# Altium schematic symbol library zxevo_c2.SchLib: 76 symbols (part 1 of 2)
Pins are listed as number, name and electrical type; pins without a type are passive.

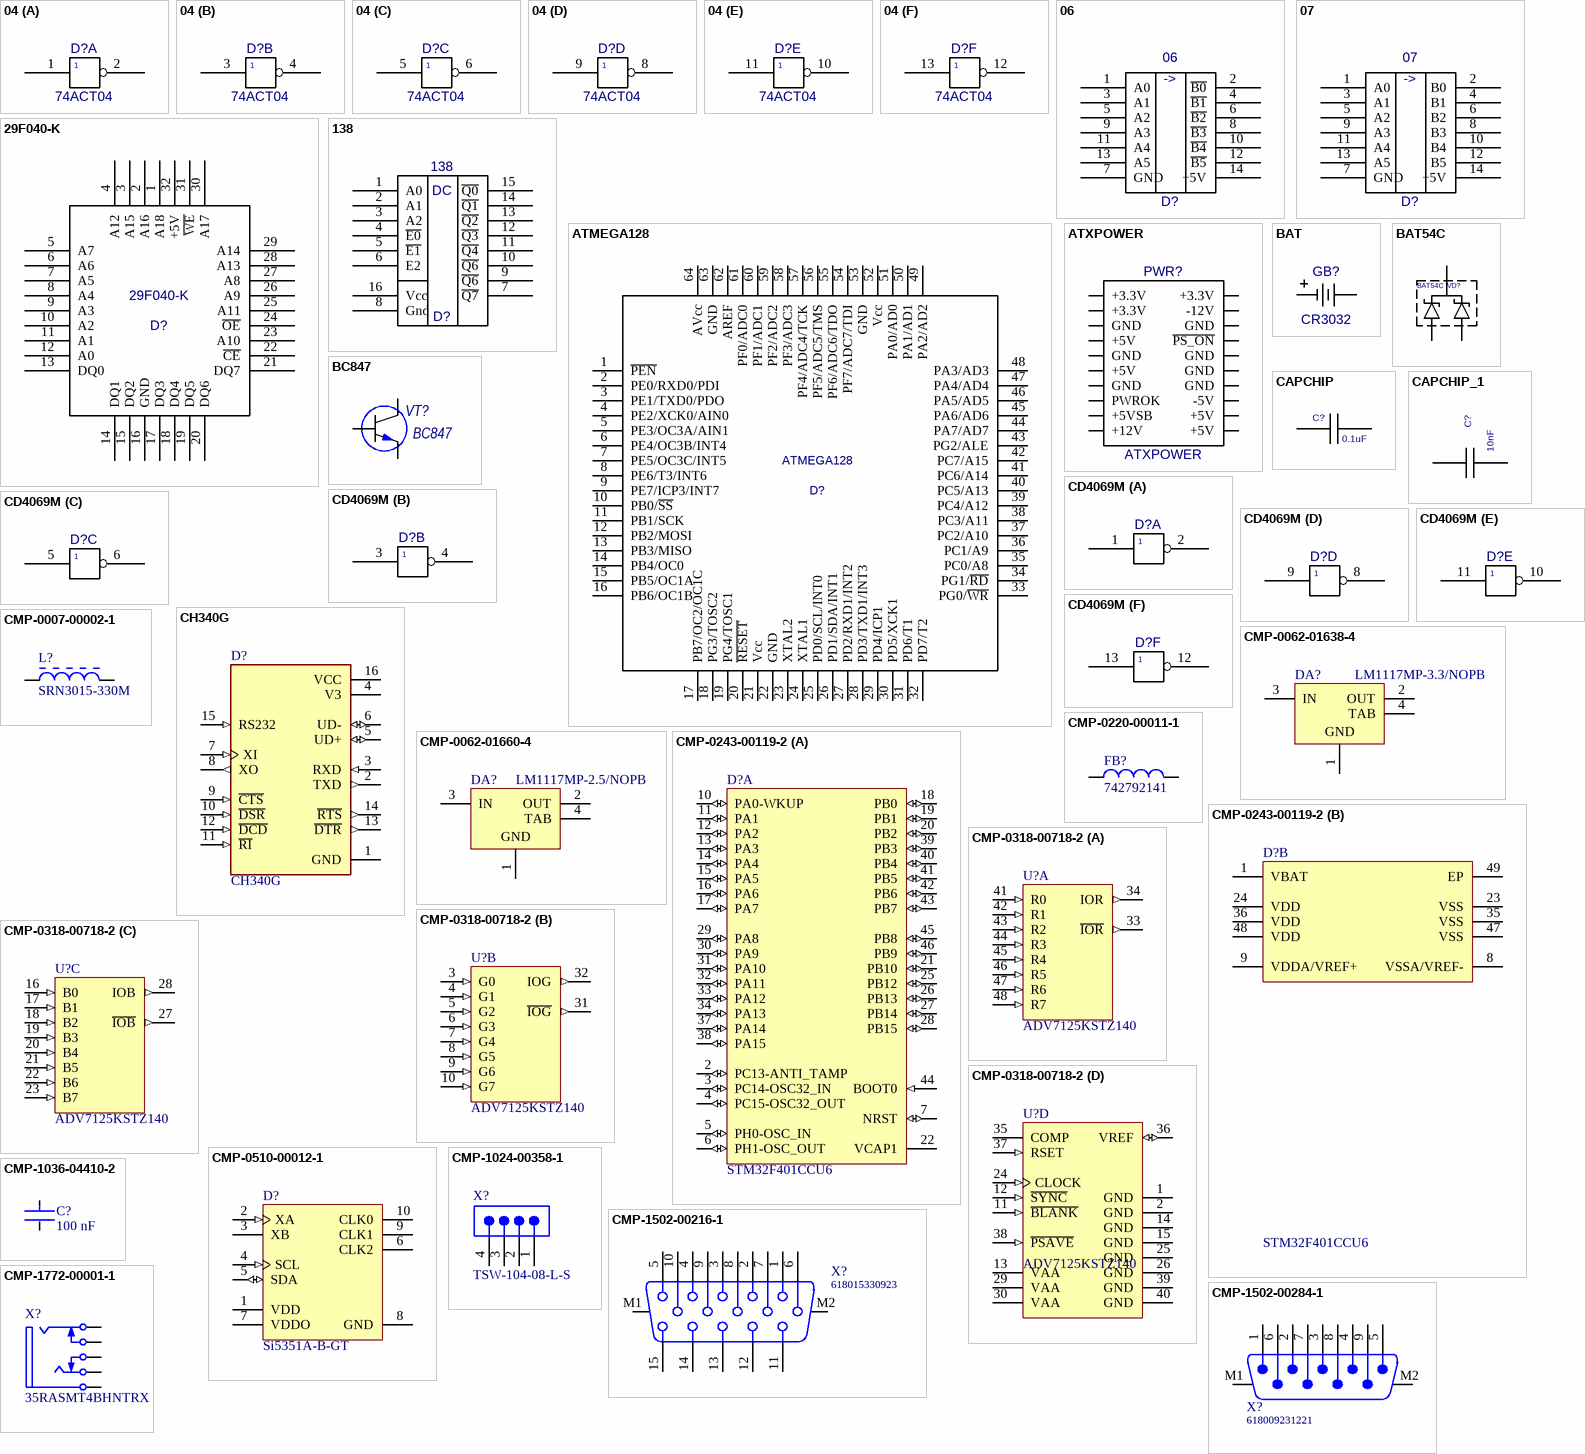
[diagram p0: symbols 04 to CMP-1772-00001-1]

## 04
designator D?  value 74ACT04  (hidden comment: 04)
footprint SO14
pins on every part: 7 GND (power) hidden to GND, 14 +5v (power) hidden to VCC5
part A pins: 1, 2
part B pins: 3, 4
part C pins: 5, 6
part D pins: 8, 9
part E pins: 10, 11
part F pins: 12, 13

## 06
designator D?
Value: *
footprint SO14
pins: 1 A0, 2 ~{B0}, 3 A1, 4 ~{B1}, 5 A2, 6 ~{B2}, 7 GND, 8 ~{B3}, 9 A3, 10 ~{B4}, 11 A4, 12 ~{B5}, 13 A5, 14 +5V
text: ->

## 07
designator D?
Value: *
footprint SO14
pins: 1 A0, 2 B0, 3 A1, 4 B1, 5 A2, 6 B2, 7 GND, 8 B3, 9 A3, 10 B4, 11 A4, 12 B5, 13 A5, 14 +5V
text: ->

## 29F040-K
designator D?
Value: *
footprint PLCC32
pins: 1 A18, 2 A16, 3 A15, 4 A12, 5 A7, 6 A6, 7 A5, 8 A4, 9 A3, 10 A2, 11 A1, 12 A0, 13 DQ0, 14 DQ1, 15 DQ2, 16 GND, 17 DQ3, 18 DQ4, 19 DQ5, 20 DQ6, 21 DQ7, 22 ~{CE}, 23 A10, 24 ~{OE}, 25 A11, 26 A9, 27 A8, 28 A13, 29 A14, 30 A17, 31 ~{WE}, 32 +5V

## 138
designator D?
Value: *
footprint SO16
pins: 1 A0, 2 A1, 3 A2, 4 ~{E0}, 5 ~{E1}, 6 E2, 7 ~{Q7}, 8 Gnd, 9 ~{Q6}, 10 ~{Q6}, 11 ~{Q4}, 12 ~{Q3}, 13 ~{Q2}, 14 ~{Q1}, 15 ~{Q0}, 16 Vcc
text: DC

## ATMEGA128
designator D?
Value: *
footprint TQFP64X8
pins: 1 ~{PEN}, 2 PE0/RXD0/PDI, 3 PE1/TXD0/PDO, 4 PE2/XCK0/AIN0, 5 PE3/OC3A/AIN1, 6 PE4/OC3B/INT4, 7 PE5/OC3C/INT5, 8 PE6/T3/INT6, 9 PE7/ICP3/INT7, 10 PB0/~{SS}, 11 PB1/SCK, 12 PB2/MOSI, 13 PB3/MISO, 14 PB4/OC0, 15 PB5/OC1A, 16 PB6/OC1B, 17 PB7/OC2/OC1C, 18 PG3/TOSC2, 19 PG4/TOSC1, 20 ~{RESET}, 21 Vcc, 22 GND, 23 XTAL2, 24 XTAL1, 25 PD0/SCL/INT0, 26 PD1/SDA/INT1, 27 PD2/RXD1/INT2, 28 PD3/TXD1/INT3, 29 PD4/ICP1, 30 PD5/XCK1, 31 PD6/T1, 32 PD7/T2, 33 PG0/~{WR}, 34 PG1/~{RD}, 35 PC0/A8, 36 PC1/A9, 37 PC2/A10, 38 PC3/A11, 39 PC4/A12, 40 PC5/A13, 41 PC6/A14, 42 PC7/A15, 43 PG2/ALE, 44 PA7/AD7, 45 PA6/AD6, 46 PA5/AD5, 47 PA4/AD4, 48 PA3/AD3, 49 PA2/AD2, 50 PA1/AD1, 51 PA0/AD0, 52 Vcc, 53 GND, 54 PF7/ADC7/TDI, 55 PF6/ADC6/TDO, 56 PF5/ADC5/TMS, 57 PF4/ADC4/TCK, 58 PF3/ADC3, 59 PF2/ADC2, 60 PF1/ADC1, 61 PF0/ADC0, 62 AREF, 63 GND, 64 AVcc

## ATXPOWER
designator PWR?
Value: *
footprint ATXPOWER
pins: 1 +3.3V, 2 +3.3V, 3 GND, 4 +5V, 5 GND, 6 +5V, 7 GND, 8 PWROK, 9 +5VSB, 10 +12V, 11 +3.3V, 12 -12V, 13 GND, 14 ~{PS_ON}, 15 GND, 16 GND, 17 GND, 18 -5V, 19 +5V, 20 +5V

## BAT
designator GB?  value CR3032  (hidden comment: BAT)
footprint BAT
pins: 1 PLUS, 2 MINUS

## BAT54C
designator VD?
Value: *
footprint SOT-23
pins: 1, 2, 3

## BC847
designator VT?
footprint SOT-23
pins: 1 base, 2 emitter, 3 collector

## CAPCHIP
designator C?  value 0.1uF  (hidden comment: CAPCHIP)
footprint C-CHIP
pins: 1, 2

## CAPCHIP_1
designator C?, comment value 10nF  (hidden comment: CAPCHIP)
footprint C-CHIP
pins: 1, 2

## CD4069M
designator D?  (value not drawn)
footprint SO14
pins on every part: 7 GND (power) hidden to AGND, 14 +5v (power) hidden to AVCC5
part A pins: 1, 2
part B pins: 3, 4
part C pins: 5, 6
part D pins: 8, 9
part E pins: 10, 11
part F pins: 12, 13

## CH340G
designator D?
USB Interface Integrated Circuit; MF: WCH; Price: None; SnapEDA_Link: https://www.snapeda.com/parts/Ch340G/WCH/view-part/?ref=snap; MP: Ch340G; Value: *; Availability: Not in stock; Package: None; Check_prices: https://www.snapeda.com/parts/Ch340G/WCH/view-part/?ref=eda
footprint SOIC127P600X180-16N
pins: 1 GND (power), 2 TXD (out), 3 RXD (in), 4 V3 (power), 5 UD+ (io), 6 UD- (io), 7 XI (in), 8 XO (out), 9 ~{CTS} (in), 10 ~{DSR} (in), 11 ~{RI} (in), 12 ~{DCD} (in), 13 ~{DTR} (out), 14 ~{RTS} (out), 15 RS232 (in), 16 VCC (power)

## CMP-0007-00002-1
designator L?, comment SRN3015-330M
Semi-shielded Power Inductor, 33 uH, +/- 20%, 0.5 A, -40 to 125 degC, 3 x 3 x 1.5 mm SMD, RoHS and Halogen Free, Tape and Reel; Manufacturer: Bourns; DCR Max: 0.959 Ohm; Resistance to Solder Heat: +260 degC for 10 sec.; Inductance: 33 uH; Isat: 0.46 A; Rated current: 0.5 A; SRF Min: 22 MHz; Inductance tolerance: +/- 20%; Packing: Tape and Reel; PackageDescription: 2-Pin SMD, Body 3 x 3 mm, Height 1.5 mm; Operating Temperature: -40 to 125 degC; Mounting Technology: Surface Mount; ComponentLink3Description: Package Specification; DatasheetVersion: Aug-11; ComponentLink3URL: http://www.bourns.com/data/global/pdfs/SRN3015.pdf; RoHS: TRUE; PartNumber: SRN3015-330M; ComponentLink2Description: Datasheet; ComponentLink2URL: http://www.bourns.com/data/global/pdfs/SRN3015.pdf; ComponentLink1Description: Manufacturer URL; PackageReference: SRN3015; ComponentLink1URL: http://www.bourns.com/; Manufacturer Part Number: SRN3015-330M
footprint BOUR-SRN3015-2_V (SMD, 2-Leads, Body 3x3mm, Height 1.5mm)
pins: 1, 2

## CMP-0062-01638-4
designator DA?, comment LM1117MP-3.3/NOPB
800mA Low-Dropout Linear Regulator, 4-pin SOT-223, Pb-Free; Manufacturer: Texas Instruments; Manufacturer: TI National Semiconductor; CompType: LDO IC; PackageTopMarking: XYTT*N05A; High-Reliability: Y; PowerWise: N; ComponentLink1URL: http://www.ti.com/general/docs/lit/getliterature.tsp?genericPartNumber=LM1117-N&fileType=pdf; PinCount: 4; PackageDescription: Molded SOT-223, 6.50 x 3.56 x 1.6mm Body, 4 Lead, 2.3mm Pitch; Code_IPC: SOT223-4; PartNumber: LM1117MP-3.3/NOPB; Code_JEDEC: TO-261-AA; RoHS: Y; PackageReference: DCY0004A; ComponentLink1Description: Datasheet URL; Manufacturer Part Number: LM1117MP-3.3/NOPB
footprint DCY0004A_L (SOT223, 4-Leads, Body 6.7x3.7mm, Pitch 2.3mm, IPC High Density)
footprint DCY0004A_M (SOT223, 4-Leads, Body 6.7x3.7mm, Pitch 2.3mm, IPC Low Density)
footprint DCY0004A_N (SOT223, 4-Leads, Body 6.7x3.7mm, Pitch 2.3mm, IPC Medium Density)
pins: 1 GND (power), 2 OUT (power), 3 IN (power), 4 TAB (power)

## CMP-0062-01660-4
designator DA?, comment LM1117MP-2.5/NOPB
800mA Low-Dropout Linear Regulator, 4-pin SOT-223, Pb-Free; Manufacturer: Texas Instruments; Manufacturer: TI National Semiconductor; PackageTopMarking: XYTT*N13A; CompType: LDO IC; PowerWise: N; High-Reliability: Y; Code_JEDEC: TO-261-AA; Code_IPC: SOT223-4; PartNumber: LM1117MP-2.5/NOPB; PackageDescription: Molded SOT-223, 6.50 x 3.56 x 1.6mm Body, 4 Lead, 2.3mm Pitch; PackageReference: DCY0004A; PinCount: 4; ComponentLink1URL: http://www.ti.com/general/docs/lit/getliterature.tsp?genericPartNumber=LM1117-N&fileType=pdf; RoHS: Y; ComponentLink1Description: Datasheet URL; Manufacturer Part Number: LM1117MP-2.5/NOPB
footprint DCY0004A_M (SOT223, 4-Leads, Body 6.7x3.7mm, Pitch 2.3mm, IPC Low Density)
footprint DCY0004A_N (SOT223, 4-Leads, Body 6.7x3.7mm, Pitch 2.3mm, IPC Medium Density)
footprint DCY0004A_L (SOT223, 4-Leads, Body 6.7x3.7mm, Pitch 2.3mm, IPC High Density)
pins: 1 GND (power), 2 OUT (power), 3 IN (power), 4 TAB (power)

## CMP-0220-00011-1
designator FB?, comment 742792141
SMD EMI Suppression Ferrite Bead WE-CBF, Z = 1000 Ohm; Manufacturer: Wurth Electronics; Impedance: 1000 Ohm; PackageReference: SMD-1206; ComponentLink1URL: http://www.we-online.com; PackageVersion: 2007; DatasheetVersion: Dec-2005; ComponentLink1Description: Manufacturer Link; PackageDescription: Chip Inductor, 2-Leads, Body 3.2 x 1.6 mm; ComponentLink2Description: Datasheet; ComponentLink2URL: http://www.we-online.de/katalog/media/pdf/742792141.pdf; Manufacturer Part Number: 742792141
footprint SMD-1206 (Chip Inductor, 2-Leads, Body 3.2x1.6x1.3 mm)
pins: 1, 2

## CMP-0243-00119-2
designator D?, comment STM32F401CCU6
ARM Cortex-M4 32-bit MCU+FPU, 105 DMIPS, 256 kB Flash, 64 kB Internal RAM, 36 I/Os, 48-pin UFQFPN, -40 to 85 degC, Tray; Manufacturer: STMicroelectronics; Supply Voltage(Vcc) max (V): 3.6; I/Os (High Current): 36; Internal RAM Size (kB): 64; Operating Frequency(F) (Processor speed) (MHz): 84; FLASH Size (Prog) (kB): 256; Supply Voltage(Vcc) min (V): 1.8; Packing: Tray; PackageReference: UFQFPN48; PackageVersion: Rev. 1, 04/2013; Core: ARM Cortex-M4; ComponentLink1Description: Manufacturer URL; ComponentLink3Description: Package Specification; PackageDescription: 48-Pin Ultra Thin Fine Pitch Quad Flat No-Lead, 7 x 7 x 0.6 mm Body, 0.5 mm Pitch, Exposed Pad; Mounting Technology: Surface Mount; ComponentLink2URL: http://www.st.com/st-web-ui/static/active/en/resource/technical/document/data_brief/DM00071938.pdf; DatasheetVersion: Rev. 1; ComponentLink2Description: Datasheet; ComponentLink1URL: http://www.st.com/web/en/home.html; PartNumber: STM32F401CCU6; ComponentLink3URL: http://www.st.com/st-web-ui/static/active/en/resource/technical/document/data_brief/DM00071938.pdf; Manufacturer Part Number: STM32F401CCU6
footprint STM-UFQFPN48_N (QFN, 48-Leads, Body 7.1x7.1mm, Pitch 0.5mm, Thermal Pad 5.6x5.6mm, IPC Medium Density)
part A pins: 2 PC13-ANTI_TAMP (io) "PC13-ANTI_TAMP/TAMP_1", 3 PC14-OSC32_IN (io) "PC14-OSC32_IN/OSC32_IN", 4 PC15-OSC32_OUT (io) "PC15-OSC32_OUT/OSC32_OUT", 5 PH0-OSC_IN (io) "PH0-OSC_IN/OSC_IN", 6 PH1-OSC_OUT (io) "PH1-OSC_OUT/OSC_OUT", 7 NRST (io), 10 PA0-WKUP (io) "PA0-WKUP/USART2_CTS,TIM2_CH1/TIM2_ETR,TIM5_CH1/ADC1_0,WKUP", 11 PA1 (io) "PA1/USART2_RTS,TIM2_CH2,TIM5_CH2/ADC1_1", 12 PA2 (io) "PA2/USART2_TX,TIM2_CH3,TIM5_CH3,TIM9_CH1/ADC1_2", 13 PA3 (io) "PA3/USART2_RX,TIM2_CH4,TIM5_CH4,TIM9_CH2/ADC1_3", 14 PA4 (io) "PA4/SPI1_NSS,SPI3_NSS/I2S3_WS,USART2_CK/ADC1_4", 15 PA5 (io) "PA5/SPI1_SCK,TIM2_CH1/TIM2_ETR/ADC1_5", 16 PA6 (io) "PA6/SPI1_MISO,TIM1_BKIN,TIM3_CH1/ADC1_6", 17 PA7 (io) "PA7/SPI1_MOSI,TIM1_CH1N,TIM3_CH2/ADC1_7", 18 PB0 (io) "PB0/TIM1_CH2N,TIM3_CH3/ADC1_8", 19 PB1 (io) "PB1/TIM1_CH3N,TIM3_CH4/ADC1_9", 20 PB2 (io), 21 PB10 (io) "PB10/SPI2_SCK/I2S2_CK,I2C2_SCL,TIM2_CH3", 22 VCAP1 (power), 25 PB12 (io) "PB12/SPI2_NSS/I2S2_WS,I2C2_SMBAL,TIM1_BKIN", 26 PB13 (io) "PB13/SPI2_SCK/I2S2_CK,TIM1_CH1N", 27 PB14 (io) "PB14/SPI2_MISO,I2S2ext_SD,TIM1_CH2N", 28 PB15 (io) "PB15/SPI2_MOSI/I2S2_SD,TIM1_CH3N,RTC_50Hz", 29 PA8 (io) "PA8/I2C3_SCL,USART1_CK,TIM1_CH1,USB_FS_SOF,MCO_1", 30 PA9 (io) "PA9/I2C3_SMBAL,USART1_TX,TIM1_CH2,USB_FS_VBUS", 31 PA10 (io) "PA10/USART1_RX,TIM1_CH3,USB_FS_ID", 32 PA11 (io) "PA11/USART1_CTS,USART6_TX,TIM1_CH4,USB_FS_DM", 33 PA12 (io) "PA12/USART1_RTS,USART6_RX,TIM1_ETR,USB_FS_DP", 34 PA13 (io) "PA13/JTMS-SWDIO", 37 PA14 (io) "PA14/JTCK-SWCLK", 38 PA15 (io) "PA15/SPI1_NSS,SPI3_NSS/I2S3_WS,TIM2_CH1/TIM2_ETR,JTDI", 39 PB3 (io) "PB3/SPI1_SCK,SPI3_SCK/I2S3_CK,I2C2_SDA,TIM2_CH2,JTDO-SWO", 40 PB4 (io) "PB4/SPI1_MISO,SPI3_MISO,I2S3ext_SD,I2C3_SDA,TIM3_CH1,JTRST", 41 PB5 (io) "PB5/SPI1_MOSI,SPI3_MOSI/I2S3_SD,I2C1_SMBAL,TIM3_CH2", 42 PB6 (io) "PB6/I2C1_SCL,USART1_TX,TIM4_CH1", 43 PB7 (io) "PB7/I2C1_SDA,USART1_RX,TIM4_CH2", 44 BOOT0 (in), 45 PB8 (io) "PB8/I2C1_SCL,TIM4_CH3,TIM10_CH1,SDIO_D4", 46 PB9 (io) "PB9/SPI2_NSS/I2S2_WS,I2C1_SDA,TIM4_CH4,TIM11_CH1,SDIO_D5"
part B pins: 1 VBAT (power), 8 VSSA/VREF- (power), 9 VDDA/VREF+ (power), 23 VSS (power), 24 VDD (power), 35 VSS (power), 36 VDD (power), 47 VSS (power), 48 VDD (power), 49 EP (power)

## CMP-0318-00718-2
designator U?, comment ADV7125KSTZ140
3 Channel 8-Bit CMOS High Speed Video Digital-to-Analog Converter, -40 to +85 degC, ST-48, Pb-Free, Tray; Manufacturer: Analog Devices; Max V+: 5.25V; Op Pwr Diss: 485mW; Resolution (Bits): 8; # DAC Outputs: 3; Single Supply: No; ComponentLink3URL: http://www.analog.com/static/imported-files/packages/PKG_PDF/LQFP%28ST%29/ST_48.pdf; PackageDescription: 48-Pin Thin Quad Flat Pack 0.5 mm Pitch; Generic Part Number: ADV7125; ComponentLink2Description: Datasheet; ComponentLink1URL: http://www.analog.com/en/index.html; ComponentLink2URL: http://www.analog.com/static/imported-files/data_sheets/ADV7125.pdf; ComponentLink3Description: Package Specification; Packing: Tray; PartNumber: ADV7125KSTZ140; DatasheetVersion: Rev.C; PackageVersion: revA; ComponentLink4Description: Product URL; PackageReference: ST-48; ComponentLink4URL: http://www.analog.com/en/digital-to-analog-converters/da-converters/adv7125/products/product.html; RevisionNote: Component URL fixed; ComponentLink1Description: Manufacturer URL; RoHS: Y; Mounting Technology: Surface Mount; Manufacturer Part Number: ADV7125KSTZ140
footprint ST-48_N (Thin QFP, 48-Leads, Body 7x7mm, Pitch 0.5mm, IPC Medium Density)
footprint ST-48_L (Thin QFP, 48-Leads, Body 7x7mm, Pitch 0.5mm, IPC High Density)
footprint ST-48_M (Thin QFP, 48-Leads, Body 7x7mm, Pitch 0.5mm, IPC Low Density)
part A pins: 33 ~{IOR} (out) "Differential Red, Green, and Blue Current Outputs (High Impedance Current Sources). These RGB video outputs are specified to directly drive RS-343A and RS-170 video levels into a doubly terminated 75 ohm load. If the (See Datasheet)", 34 IOR (out) "Red, Green, and Blue Current Outputs. These high impedance current sources are capable of directly driving a doubly terminated 75 ohm coaxial cable. All three current outputs should have similar output loads whether or not (See Datasheet)", 41 R0 (in) "Red Pixel Data Inputs (TTL Compatible). Pixel data is latched on the rising edge of CLOCK. R0, G0, and B0 are the least significant data bits. Unused pixel data inputs should be connected to either the regular printed (See Datasheet)", 42 R1 (in) "Red Pixel Data Inputs (TTL Compatible). Pixel data is latched on the rising edge of CLOCK. R0, G0, and B0 are the least significant data bits. Unused pixel data inputs should be connected to either the regular printed (See Datasheet)", 43 R2 (in) "Red Pixel Data Inputs (TTL Compatible). Pixel data is latched on the rising edge of CLOCK. R0, G0, and B0 are the least significant data bits. Unused pixel data inputs should be connected to either the regular printed (See Datasheet)", 44 R3 (in) "Red Pixel Data Inputs (TTL Compatible). Pixel data is latched on the rising edge of CLOCK. R0, G0, and B0 are the least significant data bits. Unused pixel data inputs should be connected to either the regular printed (See Datasheet)", 45 R4 (in) "Red Pixel Data Inputs (TTL Compatible). Pixel data is latched on the rising edge of CLOCK. R0, G0, and B0 are the least significant data bits. Unused pixel data inputs should be connected to either the regular printed (See Datasheet)", 46 R5 (in) "Red Pixel Data Inputs (TTL Compatible). Pixel data is latched on the rising edge of CLOCK. R0, G0, and B0 are the least significant data bits. Unused pixel data inputs should be connected to either the regular printed (See Datasheet)", 47 R6 (in) "Red Pixel Data Inputs (TTL Compatible). Pixel data is latched on the rising edge of CLOCK. R0, G0, and B0 are the least significant data bits. Unused pixel data inputs should be connected to either the regular printed (See Datasheet)", 48 R7 (in) "Red Pixel Data Inputs (TTL Compatible). Pixel data is latched on the rising edge of CLOCK. R0, G0, and B0 are the least significant data bits. Unused pixel data inputs should be connected to either the regular printed (See Datasheet)"
part B pins: 3 G0 (in) "Green Pixel Data Inputs (TTL Compatible). Pixel data is latched on the rising edge of CLOCK. R0, G0, and B0 are the least significant data bits. Unused pixel data inputs should be connected to either the regular printed (See Datasheet)", 4 G1 (in) "Green Pixel Data Inputs (TTL Compatible). Pixel data is latched on the rising edge of CLOCK. R0, G0, and B0 are the least significant data bits. Unused pixel data inputs should be connected to either the regular printed (See Datasheet)", 5 G2 (in) "Green Pixel Data Inputs (TTL Compatible). Pixel data is latched on the rising edge of CLOCK. R0, G0, and B0 are the least significant data bits. Unused pixel data inputs should be connected to either the regular printed (See Datasheet)", 6 G3 (in) "Green Pixel Data Inputs (TTL Compatible). Pixel data is latched on the rising edge of CLOCK. R0, G0, and B0 are the least significant data bits. Unused pixel data inputs should be connected to either the regular printed (See Datasheet)", 7 G4 (in) "Green Pixel Data Inputs (TTL Compatible). Pixel data is latched on the rising edge of CLOCK. R0, G0, and B0 are the least significant data bits. Unused pixel data inputs should be connected to either the regular printed (See Datasheet)", 8 G5 (in) "Green Pixel Data Inputs (TTL Compatible). Pixel data is latched on the rising edge of CLOCK. R0, G0, and B0 are the least significant data bits. Unused pixel data inputs should be connected to either the regular printed (See Datasheet)", 9 G6 (in) "Green Pixel Data Inputs (TTL Compatible). Pixel data is latched on the rising edge of CLOCK. R0, G0, and B0 are the least significant data bits. Unused pixel data inputs should be connected to either the regular printed (See Datasheet)", 10 G7 (in) "Green Pixel Data Inputs (TTL Compatible). Pixel data is latched on the rising edge of CLOCK. R0, G0, and B0 are the least significant data bits. Unused pixel data inputs should be connected to either the regular printed (See Datasheet)", 31 ~{IOG} (out) "Differential Red, Green, and Blue Current Outputs (High Impedance Current Sources). These RGB video outputs are specified to directly drive RS-343A and RS-170 video levels into a doubly terminated 75 ohm load. If the (See Datasheet)", 32 IOG (out) "Red, Green, and Blue Current Outputs. These high impedance current sources are capable of directly driving a doubly terminated 75 ohm coaxial cable. All three current outputs should have similar output loads whether or not (See Datasheet)"
part C pins: 16 B0 (in) "Blue Pixel Data Inputs (TTL Compatible). Pixel data is latched on the rising edge of CLOCK. R0, G0, and B0 are the least significant data bits. Unused pixel data inputs should be connected to either the regular printed (See Datasheet)", 17 B1 (in) "Blue Pixel Data Inputs (TTL Compatible). Pixel data is latched on the rising edge of CLOCK. R0, G0, and B0 are the least significant data bits. Unused pixel data inputs should be connected to either the regular printed (See Datasheet)", 18 B2 (in) "Blue Pixel Data Inputs (TTL Compatible). Pixel data is latched on the rising edge of CLOCK. R0, G0, and B0 are the least significant data bits. Unused pixel data inputs should be connected to either the regular printed (See Datasheet)", 19 B3 (in) "Blue Pixel Data Inputs (TTL Compatible). Pixel data is latched on the rising edge of CLOCK. R0, G0, and B0 are the least significant data bits. Unused pixel data inputs should be connected to either the regular printed (See Datasheet)", 20 B4 (in) "Blue Pixel Data Inputs (TTL Compatible). Pixel data is latched on the rising edge of CLOCK. R0, G0, and B0 are the least significant data bits. Unused pixel data inputs should be connected to either the regular printed (See Datasheet)", 21 B5 (in) "Blue Pixel Data Inputs (TTL Compatible). Pixel data is latched on the rising edge of CLOCK. R0, G0, and B0 are the least significant data bits. Unused pixel data inputs should be connected to either the regular printed (See Datasheet)", 22 B6 (in) "Blue Pixel Data Inputs (TTL Compatible). Pixel data is latched on the rising edge of CLOCK. R0, G0, and B0 are the least significant data bits. Unused pixel data inputs should be connected to either the regular printed (See Datasheet)", 23 B7 (in) "Blue Pixel Data Inputs (TTL Compatible). Pixel data is latched on the rising edge of CLOCK. R0, G0, and B0 are the least significant data bits. Unused pixel data inputs should be connected to either the regular printed (See Datasheet)", 27 ~{IOB} (out) "Differential Red, Green, and Blue Current Outputs (High Impedance Current Sources). These RGB video outputs are specified to directly drive RS-343A and RS-170 video levels into a doubly terminated 75 ohm load. If the (See Datasheet)", 28 IOB (out) "Red, Green, and Blue Current Outputs. These high impedance current sources are capable of directly driving a doubly terminated 75 ohm coaxial cable. All three current outputs should have similar output loads whether or not (See Datasheet)"
part D pins: 1 GND (power) "Ground. All GND pins must be connected.", 2 GND (power) "Ground. All GND pins must be connected.", 11 ~{BLANK} (in) "Composite Blank Control Input (TTL Compatible). A Logic 0 on this control input drives the analog outputs, IOR, IOB, and IOG, to the blanking level. The B\L\A\N\K\ signal is latched on the rising edge of CLOCK. While (See Datasheet)", 12 ~{SYNC} (in) "Composite Sync Control Input (TTL Compatible). A Logic 0 on the S\Y\N\C\ input switches off a 40 IRE current source. This is internally connected to the IOG analog output. S\Y\N\C\ does not override any other control or data (See Datasheet)", 13 VAA (power) "Analog Power Supply (5 V +/- 5%). All VAA pins on the ADV7125 must be connected.", 14 GND (power) "Ground. All GND pins must be connected.", 15 GND (power) "Ground. All GND pins must be connected.", 24 CLOCK (in) "Clock Input (TTL Compatible). The rising edge of CLOCK latches the R0 to R7, G0 to G7, B0 to B7, S\Y\N\C\, and B\L\A\N\K\ pixel and control inputs. It is typically the pixel clock rate of the video system. CLOCK should be (See Datasheet)", 25 GND (power) "Ground. All GND pins must be connected.", 26 GND (power) "Ground. All GND pins must be connected.", 29 VAA (power) "Analog Power Supply (5 V +/- 5%). All VAA pins on the ADV7125 must be connected.", 30 VAA (power) "Analog Power Supply (5 V +/- 5%). All VAA pins on the ADV7125 must be connected.", 35 COMP "Compensation Pin. This is a compensation pin for the internal reference amplifier. A 0.1 uF ceramic capacitor must be connected between COMP and VAA.", 36 VREF (io) "Voltage Reference Input for DACs or Voltage Reference Output (1.235 V).", 37 RSET (in) "A resistor (RSET) connected between this pin and GND controls the magnitude of the full-scale video signal. Note that the IRE relationships are maintained, regardless of the full-scale output current. The relationship (See Datasheet)", 38 ~{PSAVE} (in) "Power Save Control Pin. Reduced power consumption is available on the ADV7125 when this pin is active.", 39 GND (power) "Ground. All GND pins must be connected.", 40 GND (power) "Ground. All GND pins must be connected."

## CMP-0510-00012-1
designator D?, comment Si5351A-B-GT
I2C-Programmable Any-Frequency CMOS Clock Generator + VCXO, 2.5 / 3.3 V, 0.008 to 160 MHz Output, -40 to 85 degC, 10-pin SOP; Manufacturer: Silicon Labs; Sub-Family: Clock Generators; VDD: 2.5 V; 3.3 V; Output Format: LVCMOS; Reference Inputs: 1; ComponentLink1URL: http://www.silabs.com/; Code_JEDEC: MO-187; PackageDescription: 10-Pin Mini Small Outline Package, Body 3 x 3 mm, Pitch 0.5 mm; Output Frequency (MHz): 0.008 to 160; ComponentLink3Description: Package Specification; DatasheetVersion: Rev. 0.95; PartNumber: Si5351A-B-GT; ComponentLink1Description: Manufacturer URL; Code_IPC: J-STD-020; Mounting Technology: Surface Mount; ComponentLink2Description: Datasheet; PackageReference: MSOP-10; ComponentLink2URL: http://www.silabs.com/Support%20Documents/TechnicalDocs/Si5351.pdf; ComponentLink3URL: http://www.silabs.com/Support Documents/TechnicalDocs/C8051T60x.pdf; Manufacturer Part Number: SI5351A-B-GT
footprint SLAB-MSOP-10_N (SOP, 10-Leads, Body 3x3mm, Pitch 0.5mm, IPC Medium Density)
footprint SLAB-MSOP-10_L (SOP, 10-Leads, Body 3x3mm, Pitch 0.5mm, IPC High Density)
footprint SLAB-MSOP-10_M (SOP, 10-Leads, Body 3x3mm, Pitch 0.5mm, IPC Low Density)
pins: 1 VDD (power) "Core voltage supply pin.", 2 XA (in) "Input pin for external crystal.", 3 XB "Input pin for external crystal.", 4 SCL (in) "Serial clock input for the I2C bus. This pin must be pulled-up using a pull-up resistor of at least 1 k ohm.", 5 SDA (io) "Serial data input for the I2C bus. This pin must be pulled-up using a pull-up resistor of at least 1 k ohm.", 6 CLK2 (hiz) "Output clock 2.", 7 VDDO (power) "Output voltage supply pin for CLK0, CLK1, and CLK2.", 8 GND (power) "Ground.", 9 CLK1 (hiz) "Output clock 1.", 10 CLK0 (hiz) "Output clock 0."

## CMP-1024-00358-1
designator X?, comment TSW-104-08-L-S
0.025" SQ Post Header, Through-hole, Vertical, -55 to 125 degC, 2.54 mm Pitch, 4-Pin, Male, RoHS; Manufacturer: Samtec; Pitch: 2.54 mm; PartNumber: TSW-104-08-L-S; RoHS: True; Temperature Range: -55 to 125 degC; PackageDescription: .025[0.64] SQ. Post Terminal Strip Assembly; Orientation: Vertical; ComponentLink2URL: http://www.samtec.com/documents/webfiles/pdf/TSW_TH.PDF; ComponentLink1Description: Manufacturer URL; ComponentLink2Description: Datasheet; PackageVersion: DM, 8/1988; ComponentLink3URL: http://www.samtec.com/documents/webfiles/cpdf/TSW-XXX-XX-XXX-X-XX-XXX-MKT.pdf; Mounting Technology: Through-hole; PackageReference: TSW-104-08-X-S; ComponentLink3Description: Package Specification; ComponentLink1URL: http://www.samtec.com; DatasheetVersion: F-214; Manufacturer Part Number: TSW-104-08-L-S
footprint SMTC-TSW-104-08-X-S (.025 SQ Post Terminal Strip Assembly, 1x4 Pins, Vertical, 2.54mm Pitch, Male)
pins: 1, 2, 3, 4

## CMP-1036-04410-2
designator C?, comment Capacitance: 100 nF  (hidden comment: CC0805KRX7R8BB104)
CAP CER 0.1UF 25V X7R 0805; Manufacturer: Yageo; Manufacturer: KEMET; Manufacturer Part Number: C0805C104K3RACTU; Manufacturer: Vishay Vitramon; Manufacturer Part Number: VJ0805Y104KXXMC; Manufacturer: Kyocera AVX; Manufacturer Part Number: 08053C104KAT2A; Manufacturer Part Number: C0805C104K3RACTM; Manufacturer Part Number: VJ0805Y104KXXAP; Manufacturer Part Number: C0805C104K3RAC; Manufacturer Part Number: VJ0805Y104KXXPW1BC; Manufacturer Part Number: VJ0805Y104KXXAC; Manufacturer: Murata; Manufacturer Part Number: GRM21BR71E104KA01L; Manufacturer: TDK; Manufacturer Part Number: C2012X7R1E104K/0.85; Manufacturer: Vishay; Manufacturer Part Number: VJ0805Y104KXXCW1BC; Manufacturer Part Number: C2012X7R1E104K/1.25; Manufacturer Part Number: 08053D104KAT2A; Manufacturer Part Number: 08053C104KAT7A; Manufacturer Part Number: CC0805KPX7R8BB104; Manufacturer Part Number: VJ0805Y104KXXMP; Manufacturer Part Number: 08053C104KAT4A; Tolerance: 0.1; Material: Ceramic; Value: 100 nF; ComponentLink2URL: http://www.yageo.com/documents/recent/UPY-GPHC_Y5V_6.3V-to-50V_8.pdf; Category: Cap; Mouser Description: Multilayer Ceramic Capacitors MLCC - SMD/SMT 100nF 25V X7R 10%; Manufacturer Part Number: CC0805KRX7R8BB104; Device Class L1: Passive Components; Footprint Url: http://www.yageo.com/exep/pages/download/literatures/UPY-C_GEN_24.pdf; Height: 0.95mm; Digikey Description: CAP CER 0.1UF 25V X7R 0805; Lead Free: Yes; Temperature Range High: +85°C; Temperature: -30°C to +85°C; Ipc Land Pattern Name: CAPC200125X85; Automotive: No; Octopart: https://octopart.com/cc0805krx7r8bb104-yageo-39467766; Device Class L2: Capacitors; Temperature Characteristic: X7R; Voltage Rating: 25 V; ComponentLink2Description: Datasheet; Temperature Range Low: -30°C; Device Class L3: Ceramic Capacitors; RoHS: TRUE; Package: CC0805-0.85
footprint FP-CC0805-0_85-MFG
footprint FP-CC0805-0_85-IPC_C
footprint FP-CC0805-0_85-IPC_B
footprint FP-CC0805-0_85-IPC_A
pins: 1, 2

## CMP-1502-00216-1
designator X?, comment 618015330923
Female High Density PCB Connector with Hex Screw WR-DSUB, Angled, 15 pins; Manufacturer: Wurth Elektronik; Manufacturer: Wurth Electronics; Contact Resistance: 30mOhm; Rated Current: 3A; Working Voltage: 60VAC; Pin Number: 15; Datasheet URL: https://katalog.we-online.de/em/datasheet/6180xx330923.pdf; Packaging: Tray; Operating Temperature: -40to85degC; Manufacturer URL: http://www.we-online.de; Mounting Technology: THT; Part Number: 618015330923; Gender: Female; Publisher: WurthElektronik; Orientation: Angled; Package Reference: 618015330923; Manufacturer Part Number: 618015330923
footprint 618015330923 (15 pins, right angled)
pins: 1, 2, 3, 4, 5, 6, 7, 8, 9, 10, 11, 12, 13, 14, 15, M1, M2

## CMP-1502-00284-1
designator X?, comment 618009231221
Male PCB Connector with Hex Screw WR-DSUB, 8.08 mm, Angled, 9 pins; Manufacturer: Wurth Elektronik; Manufacturer: Wurth Electronics; Working Voltage: 125VAC; Contact Resistance: 30mOhm; Rated Current: 3A; Pin Number: 9; Manufacturer URL: http://www.we-online.de; Orientation: Angled; Operating Temperature: -40to85degC; Package Reference: 618009231221; Gender: Male; Mounting Technology: THT; Publisher: WurthElektronik; Datasheet URL: https://katalog.we-online.de/em/datasheet/6180xx231221.pdf; Part Number: 618009231221; Packaging: Tray; Manufacturer Part Number: 618009231221
footprint 618009231221 (9 pins, right angled, 8.08mm, with hex screw)
pins: 1, 2, 3, 4, 5, 6, 7, 8, 9, M1, M2

## CMP-1772-00001-1
designator X?, comment 35RASMT4BHNTRX
Female 3.5 mm Phone Jack, 5 Position, Height 5 mm, RoHS, Tape and Reel; Manufacturer: Switchcraft; Current Rating: 50 mA; Voltage Rating (DC): 12 V; ComponentLink1URL: http://www.switchcraft.com/; ComponentLink2Description: Datasheet; ComponentLink2URL: http://www.switchcraft.com/Drawings/35rasmt4bhntrx_cd.pdf; PackageDescription: Female 3.5 mm Phone Jack, 5 Position, Height 5 mm; PackageReference: 35RASMT4BHNTRX; Mount: Through Hole; DatasheetVersion: Rev. C, 07/2014; Contact Material: Silver; ComponentLink1Description: Manufacturer URL; Packaging: Tape and Reel; RoHSCompliant: true; Contact Plating: Silver; Package Quantity: 3000; Manufacturer Part Number: 35RASMT4BHNTRX
footprint SWIT-35RASMT4BHNTRX_V (Jack, 5-Leads, Body 17x6mm)
pins: 1, 2, 3, 4, 5

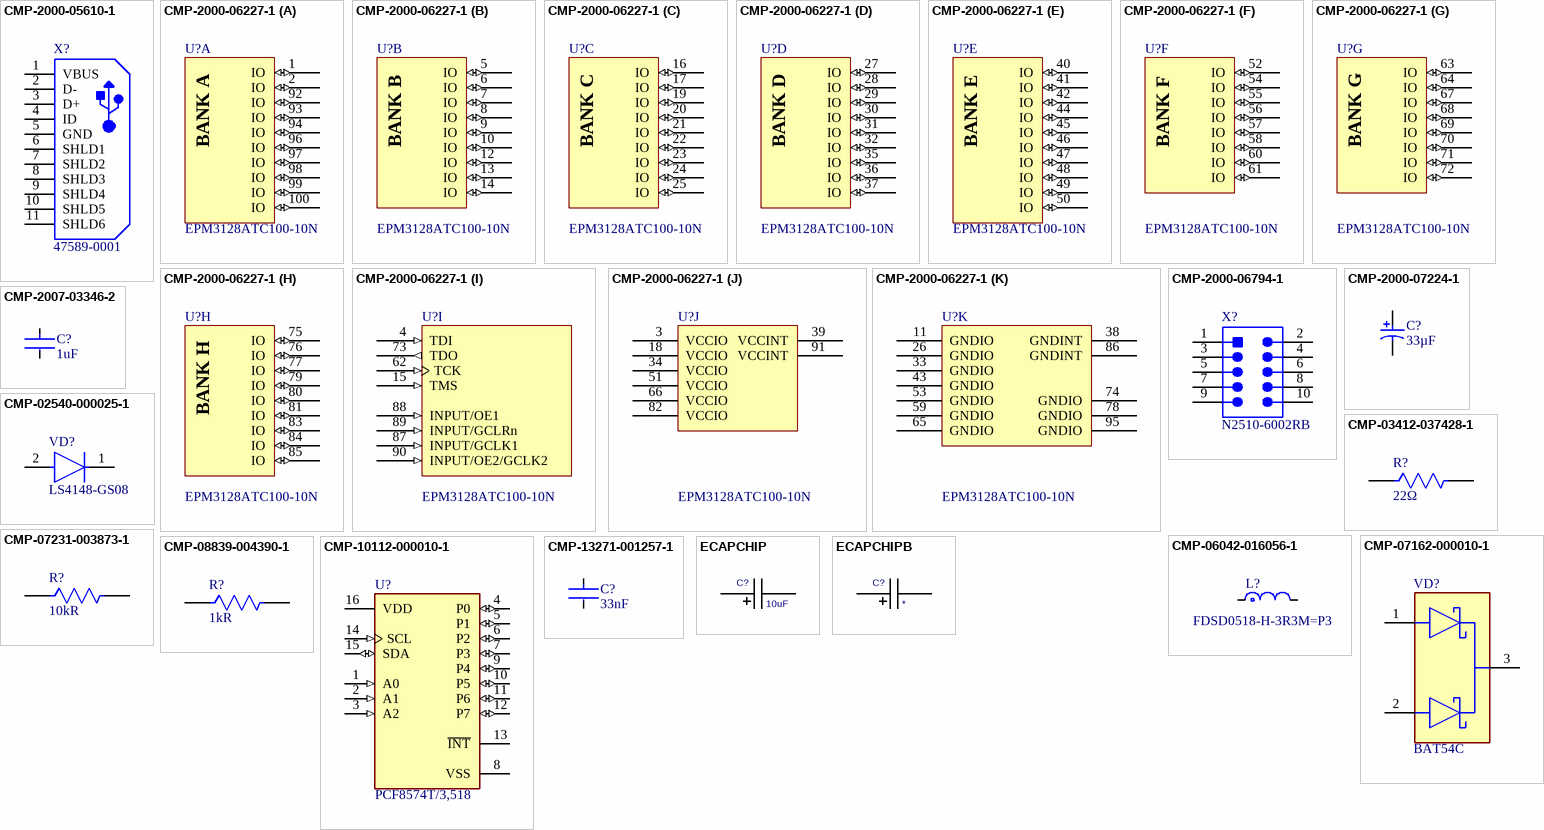
[diagram p1: symbols CMP-2000-05610-1 to ECAPCHIPB]

## CMP-2000-05610-1
designator X?, comment 47589-0001
Right Angle Female Type AB Micro USB Connector, 30 V, 1.8 A, -30 to 85 degC, RoHS, Tape and Reel; Number of Ports: 1Port; Current Rating: 1.8A; Brand: Molex; Connector Type: MicroUSBTypeABreceptacle; Number of Contacts: 5Contact; Voltage Rating: 30VAC; Color: Black; Product: MicroUSBTypeABConnectors; Package URL: http://www.molex.com/pdm_docs/sd/475890001_sd.pdf; Contact Plating: Gold; Datasheet URL: http://www.molex.com/webdocs/datasheets/pdf/en-us/0475890001_IO_CONNECTORS.pdf; Operating Temperature Range: -20Cto+85C; Termination Style: SMD/SMT; Mounting Angle: Right; Package Reference: 47589-0001; Gender: Female; Package Description: Micro USB Connector, Pitch 0.65 mm, 5 Positions, Body 7.5 x 5.6 mm; Mounting Technology: SurfaceMount; Contact Material: CopperAlloy; Packaging: Reel; RoHS: True; Standard: USB; Manufacturer URL: http://www.molex.com/; Manufacturer: Molex; Datasheet Version: 12/2016; Product Category: USBConnectors; Series: 47589; Manufacturer Part Number: 47589-0001
footprint MOLX-47589-0001_V (SMD, 5-Leads, Body 7.5x5.6mm, Pitch 0.65mm)
pins: 1 VBUS, 2 D-, 3 D+, 4 ID, 5 GND, 6 SHLD1, 7 SHLD2, 8 SHLD3, 9 SHLD4, 10 SHLD5, 11 SHLD6

## CMP-2000-06227-1
designator U?, comment EPM3128ATC100-10N
MAX(R) 3000A CPLD, 80 I/Os, Speed Grade 5, Commercial Grade, 100-Pin TQFP, RoHS; Manufacturer: Altera; Manufacturer: Intel Altera; Frequency: 98MHz; CPLD Type: EEPROM; No. of Pins: 100; Supply Voltage Max: 3.6V; No. of I/O's: 80; IC Generic Number: 3128; Supply Voltage: 3.3V; Propagation Delay: 10ns; Supply Voltage Range: 3Vto3.6V; Logic IC Function: PLD; I/O Interface Standard: CMOS,TTL; Global Clock Setup Time: 6.6ns; No. of Macrocells: 128; Package Version: Rev. 16.8, 12/2011; No. of Gates: 2500; Supply Voltage Min: 3V; SVHC: NoSVHC(19-Dec-2011); Operating Temperature Min: 0°C; Series: MAX3000A; Package / Case: TQFP; Logic Case Style: TQFP; Manufacturer URL: https://www.altera.com/; Logic Function Number: 3128; Datasheet Version: Rev. 3.5, 06/2006; Package Description: 100-Pin Plastic Thin Quad Flat Pack (TQFP), Body 14 x 14 mm, Pitch 0.5 mm; Package URL: https://www.altera.com/content/dam/altera-www/global/en_US/pdfs/literature/ds/pkgds.pdf#page=67-68; No. of Inputs: 80; Package Reference: TQFP100_A-120_D1-140; Mounting Technology: SurfaceMount; Programmable Logic Type: PLD; MSL: MSL3-168hours; Datasheet URL: https://www.altera.com/content/dam/altera-www/global/en_US/pdfs/literature/ds/ds_m3000a.pdf; Operating Temperature Max: 70°C; Logic IC Base Number: 3128; Termination Type: SMD; Operating Temperature Range: 0°Cto+70°C; Base Number: 3128; Manufacturer Part Number: EPM3128ATC100-10N
footprint ALTR-TQFP100_A-120_D1-140_L (QFP, 100-Leads, Body 14x14mm, Pitch 0.5mm, IPC High Density)
footprint ALTR-TQFP100_A-120_D1-140_M (QFP, 100-Leads, Body 14x14mm, Pitch 0.5mm, IPC Low Density)
footprint ALTR-TQFP100_A-120_D1-140_N (QFP, 100-Leads, Body 14x14mm, Pitch 0.5mm, IPC Medium Density)
part A pins: 1 IO (io), 2 IO (io), 92 IO (io), 93 IO (io), 94 IO (io), 96 IO (io), 97 IO (io), 98 IO (io), 99 IO (io), 100 IO (io)
part B pins: 5 IO (io), 6 IO (io), 7 IO (io), 8 IO (io), 9 IO (io), 10 IO (io), 12 IO (io), 13 IO (io), 14 IO (io)
part C pins: 16 IO (io), 17 IO (io), 19 IO (io), 20 IO (io), 21 IO (io), 22 IO (io), 23 IO (io), 24 IO (io), 25 IO (io)
part D pins: 27 IO (io), 28 IO (io), 29 IO (io), 30 IO (io), 31 IO (io), 32 IO (io), 35 IO (io), 36 IO (io), 37 IO (io)
part E pins: 40 IO (io), 41 IO (io), 42 IO (io), 44 IO (io), 45 IO (io), 46 IO (io), 47 IO (io), 48 IO (io), 49 IO (io), 50 IO (io)
part F pins: 52 IO (io), 54 IO (io), 55 IO (io), 56 IO (io), 57 IO (io), 58 IO (io), 60 IO (io), 61 IO (io)
part G pins: 63 IO (io), 64 IO (io), 67 IO (io), 68 IO (io), 69 IO (io), 70 IO (io), 71 IO (io), 72 IO (io)
part H pins: 75 IO (io), 76 IO (io), 77 IO (io), 79 IO (io), 80 IO (io), 81 IO (io), 83 IO (io), 84 IO (io), 85 IO (io)
part I pins: 4 TDI (in), 15 TMS (in), 62 TCK (in), 73 TDO (out), 87 INPUT/GCLK1 (in), 88 INPUT/OE1 (in), 89 INPUT/GCLRn (in), 90 INPUT/OE2/GCLK2 (in)
part J pins: 3 VCCIO (power), 18 VCCIO (power), 34 VCCIO (power), 39 VCCINT (power), 51 VCCIO (power), 66 VCCIO (power), 82 VCCIO (power), 91 VCCINT (power)
part K pins: 11 GNDIO (power), 26 GNDIO (power), 33 GNDIO (power), 38 GNDINT (power), 43 GNDIO (power), 53 GNDIO (power), 59 GNDIO (power), 65 GNDIO (power), 74 GNDIO (power), 78 GNDIO (power), 86 GNDINT (power), 95 GNDIO (power)
part A text: BANK A
part B text: BANK B
part C text: BANK C
part D text: BANK D
part E text: BANK E
part F text: BANK F
part G text: BANK G
part H text: BANK H

## CMP-2000-06794-1
designator X?, comment N2510-6002RB
Male Header, Pitch 2.54 mm, 2 x 5 Postion, Height 9.91 mm, Tail Length 2.84 mm, -55 to 105 degC, RoHS, Bulk; PartNumber: N2510; Manufacturer: 3M; Package Version: Rev. M, 08/2014; Rad Hard: No; No. of Rows: 2; Number of Contacts: 10; Pitch: 2.54mm; Termination Method: Solder; Manufacturer URL: http://www.3m.com/; Package Description: 10-Pin Through Hole Device, Body 20.02 x 8.59 mm, Pitch 2.54 mm; Gender: Male; Number of Rows: 2; Orientation: Straight; Contact Plating: GoldOverNickel; Packaging: Rail/Tube; Mounting Technology: ThroughHole; Datasheet URL: https://datasheet.ciiva.com/11746/0900766b807b18da-11746957.pdf; Package Reference: N2510-6002-10; Datasheet Version: 05/2007; No. of Positions: 10; Package URL: http://multimedia.3m.com/mws/media/330367O/3mtm-100-in-4-wall-hdr-rohs-lp-straightra-hitemp-ts0770.pdf; Type: ShroudedHeader; Manufacturer Part Number: N2510-6002RB
footprint 3M-N2510-6002-10_V (Header, 10-Leads, Body 20.02x8.59mm, Pitch 2.54mm)
pins: 1, 2, 3, 4, 5, 6, 7, 8, 9, 10

## CMP-2000-07224-1
designator C?, comment Capacitance: 33µF  (hidden comment: TAJB336K016RNJ)
Standard Tantalum, 33 uF, +/- 10%, 16 V, -55 to 125 degC, 2-Pin SMD, RoHS, Tape and Reel; Manufacturer: AVX; Manufacturer Size Code: B; PCN Part Number: TAJSeriesSuffix08/Dec/2008; Manufacturer: Kyocera AVX; Other Names: 478-1688-1; Kits: 478-3443-ND-KITTANTCAPTAJSERIES; Product Training Modules: ComponentSolutionsforSmartMeterApplications; Catalog Drawings: TAJSeriesSideTAJSeries; ESR (Equivalent Series Resistance): 2.1Ohm; EDA / CAD Models: DownloadfromAcceleratedDesigns; Voltage - Rated: 16V; Type: Molded; Online Catalog: TAJSeries; Lead Spacing: -; Family: TantalumCapacitors; Series: TAJ; Package Reference: CAPMP3529X21-T; Package / Case: 1210(3528Metric); Category: Capacitors; Packaging: CutTape(CT); Lifetime @ Temp.: -; Package URL: http://www.avx.com/download/software/literature/AVX-Footprint-Library.pdf; Tolerance: ±10%; Manufacturer URL: http://www.avx.com/; Package Description: 2-Pin Surface Mount Device, Body 3.5 x 2.85 mm; Features: GeneralPurpose; Height - Seated (Max): 0.083"(2.10mm); Mounting Technology: SurfaceMount; Datasheet Version: 02/2016; Datasheet URL: http://datasheets.avx.com/TAJ.pdf; Operating Temperature: -55°C~125°C; Standard Package: 1; Size / Dimension: 0.138"Lx0.110"W(3.50mmx2.80mm); Mounting Type: SurfaceMount; Manufacturer Part Number: TAJB336K016RNJ
footprint CAPMP3529X21-T_V (Molded Capacitor, 2-Leads, Body 3.70x3mm)
pins: 1, 2

## CMP-2007-03346-2
designator C?, comment Capacitance: 1uF  (hidden comment: GCM21BR71E105KA56L)
Ceramic Capacitor for Automotive 1uF ±10% 25VDC X7R 0805 Embossed T/R; Manufacturer: Murata; Voltage Rating (DC): 25V; Dielectric: X7R; Max Operating Temperature: 125°C; Lead Free: Lead Free; Ratings: AEC-Q200; Voltage Rating: 25V; Case Code (Imperial): 0805; Package Quantity: 3000; Termination: SMD/SMT; Packaging: Tape and Reel; Tolerance: 10%; Length: 2mm; Voltage: 25V; Radiation Hardening: No; Depth: 1.25mm; Case/Package: 0805; Thickness: 0.055inch; Width: 0.049inch; Min Operating Temperature: -55°C; Mount: Surface Mount; REACH SVHC: No SVHC; Case Code (Metric): 2012; Height: 1.25mm; Manufacturer Part Number: GCM21BR71E105KA56L
footprint FP-GCM21B-0_15-MFG
footprint FP-GCM21B-0_15-IPC_A
footprint FP-GCM21B-0_15-IPC_B
footprint FP-GCM21B-0_15-IPC_C
pins: 1, 2

## CMP-02540-000025-1
designator VD?, comment LS4148-GS08
DIODE GEN PURP 75V 150MA SOD80; Manufacturer: Vishay Semiconductor Diodes Division; Manufacturer: Vishay; Max Junction Temp: +175°C; Capacitance: 4pF; Value: 4pF; Forward Current: 300mA; Peak Reverse Current: 5uA; Max Repetitive Reverse Voltage: 100V; Automotive Grade: Grade 0; Max Surge Forward Current: 2A; RoHS: TRUE; Mouser Description: LS4148 Series 100 V 150 mA Small Signal Fast Switching Diode - QuadroMELF SOD-80; Octopart: https://octopart.com/ls4148-gs08-vishay-55401771; Height: 1.6mm; Reverse Voltage: 75V; Temperature Range High: +175°C; Device Class L2: Diodes; Category: Diode; Temperature: to +175°C; Device Class L3: Rectifier Diodes; Automotive: Yes; Device Class L1: Discrete Semiconductors; ComponentLink2URL: http://www.vishay.com/docs/85561/ls4148.pdf; Manufacturer Part Number: LS4148-GS08; Package: 6.560-5006.01-4; Lead Free: Yes; ComponentLink2Description: Datasheet; Digikey Description: DIODE GEN PURP 75V 150MA SOD80
footprint FP-6_560-5006_01-4-MFG
pins: 1 C, 2 A

## CMP-03412-037428-1
designator R?, comment Resistance: 22Ω  (hidden comment: AC0805JR-0722RL)
RES SMD 22 OHM 5% 1/8W 0805; Manufacturer: Yageo; Value: 22Ω; Automotive Grade: Grade 0; Voltage Rating: 150V; Tolerance: 0.05; Temperature Range High: +155°C; Ipc Land Pattern Name: RESC200125X50; Series: AC; Temperature: -55°C to +155°C; Octopart: https://octopart.com/ac0805jr-0722rl-yageo-25972001; Digikey Description: RES SMD 22 OHM 5% 1/8W 0805; Height: 0.6mm; ComponentLink2URL: http://www.yageo.com/documents/recent/PYu-AC_51_RoHS_L_6.pdf; Composition: Thick Film; Automotive: Yes; Mouser Description: Thick Film Resistors 1/8W 22ohm 5% AEC-Q200; Device Class L3: Chip SMD Resistors; Device Class L2: Resistors; Power Rating: 1/8W; Device Class L1: Passive Components; Category: Res; RoHS: TRUE; ComponentLink2Description: Datasheet; Temperature Range Low: -55°C; Package: AC0805; Footprint Url: http://www.yageo.com/exep/pages/download/literatures/PYu-R_Mount_10.pdf; Lead Free: Yes; Manufacturer Part Number: AC0805JR-0722RL
footprint FP-AC0805-MFG
footprint FP-AC0805-IPC_C
footprint FP-AC0805-IPC_B
footprint FP-AC0805-IPC_A
pins: 1, 2

## CMP-06042-016056-1
designator L?, comment FDSD0518-H-3R3M=P3
FIXED IND 3.3UH 3.4A 58 MOHM SMD; Manufacturer: Murata; Tolerance: 20%; Saturation Current: 4.6A; DC Resistance (DCR): 58mR; Test Frequency: 100kHz; Shielding: Shielded; Core Material: Ferrite; Packaging: Tape and Reel; Current Rating: 3.4A; Resistor Type: Wirewound; Depth: 4.9mm; Inductance: 3.3uH; Width: 0.193inch; RoHS Compliant: Yes; Height - Seated (Max): 0.071inch; Mount: Surface Mount; Length: 0.205inch; Case/Package: Nonstandard; Max DC Current: 3.4A; Manufacturer Part Number: FDSD0518-H-3R3M=P3
footprint FP-FDSD0518-MFG
pins: 1, 2

## CMP-07162-000010-1
designator VD?, comment BAT54C
DIODE ARRAY SCHOTTKY 30V SOT23-3; Obsolete Part: true; Manufacturer: ON Semiconductor; Manufacturer: ON Semiconductor / Fairchild; Max Junction Temp: +150°C; Forward Current: 200mA; Peak Reverse Current: 2uA; Standoff Height: 0mm; Capacitance: 10pF; Max Surge Forward Current: 600mA; Value: 10pF; Device Class L3: Schottky Diodes; ComponentLink2Description: Datasheet; Category: Diode; Max Repetitive Reverse Voltage: 30V; ComponentLink2URL: https://media.digikey.com/pdf/Data%20Sheets/ON%20Semiconductor%20PDFs/BAT54(A,C,S).pdf; Package: MA03D; Octopart: https://octopart.com/bat54c-on+semiconductor-8095621; Height: 1.2mm; Reverse Voltage: 30V; Manufacturer Part Number: BAT54C; Automotive: No; Device Class L1: Discrete Semiconductors; Temperature Range Low: -55°C; Device Class L2: Diodes; Digikey Description: DIODE ARRAY SCHOTTKY 30V SOT23-3; Temperature: -55°C to +150°C; Temperature Range High: +150°C
footprint FP-MA03D-MFG
footprint FP-MA03D-IPC_C
footprint FP-MA03D-IPC_B
footprint FP-MA03D-IPC_A
pins: 1 1 ANODE, 2 2 ANODE, 3 COMMON CATHODE

## CMP-07231-003873-1
designator R?, comment Resistance: 10kR  (hidden comment: CR0805-JW-103ELF)
Thick Film Chip Resistors 0805 10kΩ 0.125W 5% 200ppm/°C; Manufacturer: Bourns; Power Rating: 125mW; Voltage Rating (DC): 100V; Voltage Rating: 150V; Width: 1.25mm; Composition: Thick Film; Packaging: Tape and Reel; Number of Terminations: 2; Min Operating Temperature: -55°C; Height: 0.5mm; Temperature Coefficient: 200ppm/°C; Features: Moisture Resistant; Termination: SMD/SMT; Case Code (Imperial): 0805; Package Quantity: 1; Radiation Hardening: No; Military Standard: Not; Thickness: 508um; Depth: 1.25mm; Tolerance: 5%; Contact Plating: Tin; Number of Pins: 2; Length: 2mm; Max Power Dissipation: 125mW; Mount: Surface Mount; Case Code (Metric): 2012; Case/Package: 0805; REACH SVHC: No SVHC; Max Operating Temperature: 155°C; Manufacturer Part Number: CR0805-JW-103ELF
footprint FP-CR0805-IPC_B
footprint FP-CR0805-MFG
footprint FP-CR0805-IPC_A
footprint FP-CR0805-IPC_C
pins: 1, 2

## CMP-08839-004390-1
designator R?, comment Resistance: 1kR  (hidden comment: MCR10ERTJ102)
Thick Film Chip Resistor, 0805, 1kΩ, 5%, 200ppm/°C, 0.125W, 150V; Manufacturer: Rohm; Max Power Dissipation: 125mW; RoHS Compliant: Yes; Height: 0.024inch; Case/Package: 0805; Max Operating Temperature: 155°C; Package Quantity: 1; Length: 0.079inch; Number of Terminations: 2; Packaging: Cut Tape; Case Code (Metric): 2012; Resistor Type: Thick Film; Min Operating Temperature: -55°C; Voltage Rating (DC): 150V; Tolerance: 5%; Case Code (Imperial): 0805; Width: 0.049inch; Temperature Coefficient: 200ppm/°C; Series: MCR10; Manufacturer Part Number: MCR10ERTJ102
footprint FP-MCR10-MFG
footprint FP-MCR10-IPC_A
footprint FP-MCR10-IPC_C
footprint FP-MCR10-IPC_B
pins: 1, 2

## CMP-10112-000010-1
designator U?, comment PCF8574T/3,518
IC I/O EXPANDER I2C 8B 16SOIC; Manufacturer: NXP Semiconductors; Frequency: 100kHz; Max Supply Voltage: 6V; Standoff Height: 0.1mm; Nominal Supply Current: 40uA; Max Junction Temp: +125°C; Min Supply Voltage: 2.5V; Number Of I/Os: 8; Manufacturer Part Number: PCF8574T/3,518; Footprint Url: https://www.nxp.com/docs/en/package-information/SOT162-1.pdf; ComponentLink2URL: https://www.nxp.com/docs/en/data-sheet/PCF8574_PCF8574A.pdf; Automotive: No; Digikey Description: IC I/O EXPANDER I2C 8B 16SOIC; Mouser Description: PCF8574 Series 2.5 - 6V Remote 8-bit I/O Expander for I2C-bus - SOIC-16; Ipc Land Pattern Name: SOIC127P1032X265-16; Interface: I2C; Octopart: https://octopart.com/pcf8574t%2F3%2C518-nxp+semiconductors-10470852; Ambient Temperature Range Low: -40°C; Lead Free: Yes; Device Class L2: Interface ICs; Temperature Range High: +85°C; Device Class L1: Integrated Circuits (ICs); Package: SOT162-1; ComponentLink2Description: Datasheet; Device Class L3: I/O Expanders; Temperature: -40°C to +85°C; Ambient Temperature Range High: +85°C; Height: 2.65mm; Category: IC; RoHS: TRUE; Temperature Range Low: -40°C
footprint FP-SOT162-1-MFG
footprint FP-SOT162-1-IPC_C
footprint FP-SOT162-1-IPC_B
footprint FP-SOT162-1-IPC_A
pins: 1 A0 (in), 2 A1 (in), 3 A2 (in), 4 P0 (io), 5 P1 (io), 6 P2 (io), 7 P3 (io), 8 VSS (power), 9 P4 (io), 10 P5 (io), 11 P6 (io), 12 P7 (io), 13 ~{INT} (oc), 14 SCL (in), 15 SDA (io), 16 VDD (power)

## CMP-13271-001257-1
designator C?, comment Capacitance: 33nF  (hidden comment: CL21B333KBANNNC)
CL21 Series 0805 33nF 50V ±10% Tolerance X7R Multilayer Ceramic Chip Capacitor; Manufacturer: Samsung; Lead Free: Lead Free; Case Code (Imperial): 0805; Case/Package: 0805; Depth: 1.25mm; Package Quantity: 1; Radiation Hardening: No; Max Operating Temperature: 125°C; Min Operating Temperature: -55°C; Length: 2mm; Voltage Rating (DC): 50V; Material: Ceramic; Thickness: 0.03inch; Height: 0.65mm; Voltage Rating: 50V; Dielectric: X7R; Mount: Surface Mount; Voltage: 50V; Tolerance: 10%; Width: 0.049inch; Case Code (Metric): 2012; Packaging: Tape and Reel; Manufacturer Part Number: CL21B333KBANNNC
footprint FP-CL21-IPC_B
footprint FP-CL21-IPC_A
footprint FP-CL21-IPC_C
pins: 1, 2

## ECAPCHIP
designator C?  value 10uF  (hidden comment: ECAPCHIP)
footprint EC-CHIP
pins: 1, 2

## ECAPCHIPB
designator C?  (value not drawn)
Value: *
footprint EC-CHIPB
pins: 1, 2

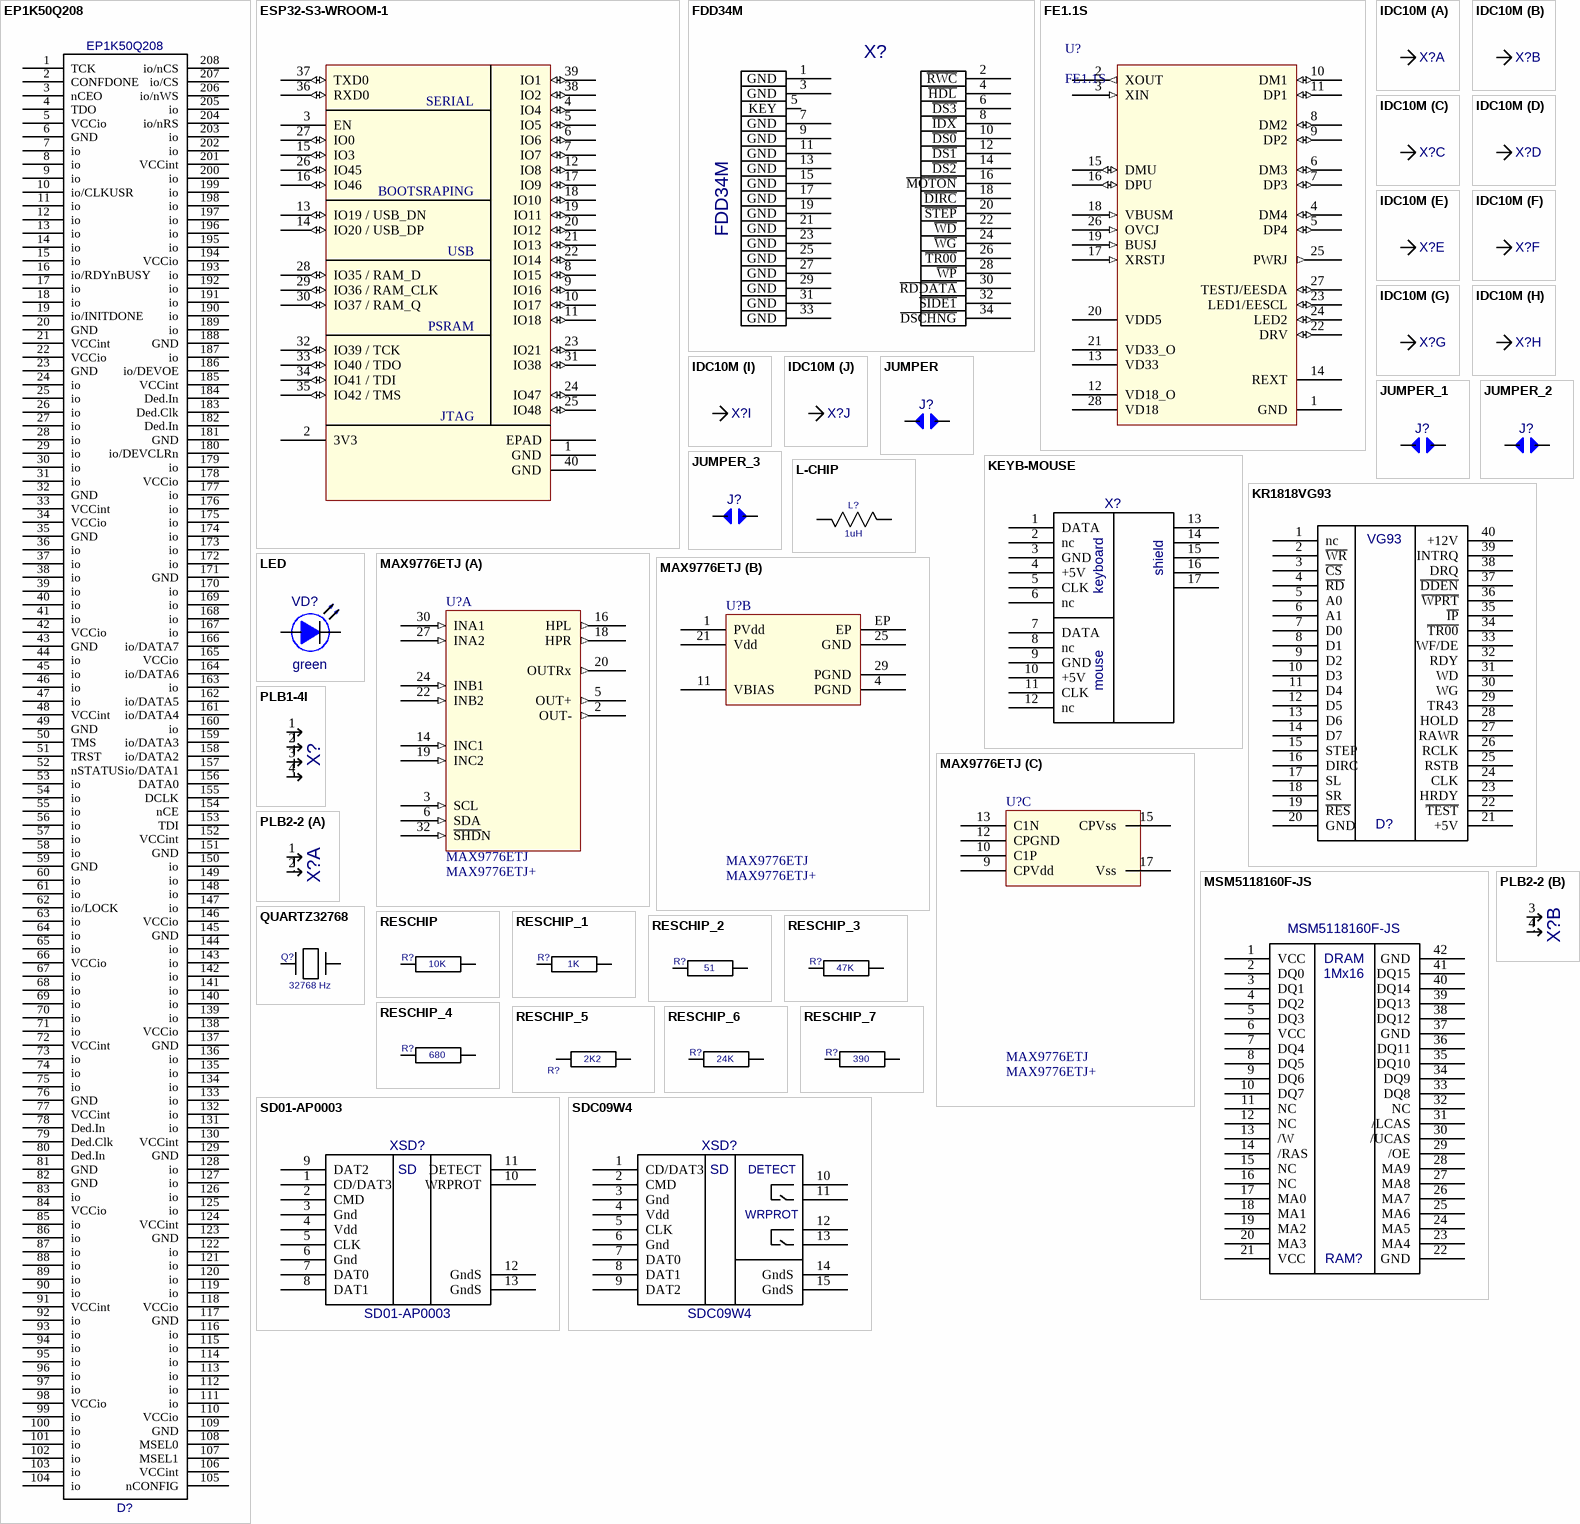
[diagram p2: symbols EP1K50Q208 to SDC09W4]

## EP1K50Q208
designator D?
Value: *
footprint PQFP208X5
pins: 1 TCK, 2 CONFDONE, 3 nCEO, 4 TDO, 5 VCCio, 6 GND, 7 io, 8 io, 9 io, 10 io/CLKUSR, 11 io, 12 io, 13 io, 14 io, 15 io, 16 io/RDYnBUSY, 17 io, 18 io, 19 io/INITDONE, 20 GND, 21 VCCint, 22 VCCio, 23 GND, 24 io, 25 io, 26 io, 27 io, 28 io, 29 io, 30 io, 31 io, 32 GND, 33 VCCint, 34 VCCio, 35 GND, 36 io, 37 io, 38 io, 39 io, 40 io, 41 io, 42 VCCio, 43 GND, 44 io, 45 io, 46 io, 47 io, 48 VCCint, 49 GND, 50 TMS, 51 TRST, 52 nSTATUS, 53 io, 54 io, 55 io, 56 io, 57 io, 58 io, 59 GND, 60 io, 61 io, 62 io/LOCK, 63 io, 64 io, 65 io, 66 VCCio, 67 io, 68 io, 69 io, 70 io, 71 io, 72 VCCint, 73 io, 74 io, 75 io, 76 GND, 77 VCCint, 78 Ded.In, 79 Ded.Clk, 80 Ded.In, 81 GND, 82 GND, 83 io, 84 VCCio, 85 io, 86 io, 87 io, 88 io, 89 io, 90 io, 91 VCCint, 92 io, 93 io, 94 io, 95 io, 96 io, 97 io, 98 VCCio, 99 io, 100 io, 101 io, 102 io, 103 io, 104 io, 105 nCONFIG, 106 VCCint, 107 MSEL1, 108 MSEL0, 109 GND, 110 VCCio, 111 io, 112 io, 113 io, 114 io, 115 io, 116 io, 117 GND, 118 VCCio, 119 io, 120 io, 121 io, 122 io, 123 GND, 124 VCCint, 125 io, 126 io, 127 io, 128 io, 129 GND, 130 VCCint, 131 io, 132 io, 133 io, 134 io, 135 io, 136 io, 137 GND, 138 VCCio, 139 io, 140 io, 141 io, 142 io, 143 io, 144 io, 145 GND, 146 VCCio, 147 io, 148 io, 149 io, 150 io, 151 GND, 152 VCCint, 153 TDI, 154 nCE, 155 DCLK, 156 DATA0, 157 io/DATA1, 158 io/DATA2, 159 io/DATA3, 160 io, 161 io/DATA4, 162 io/DATA5, 163 io, 164 io/DATA6, 165 VCCio, 166 io/DATA7, 167 io, 168 io, 169 io, 170 io, 171 GND, 172 io, 173 io, 174 io, 175 io, 176 io, 177 io, 178 VCCio, 179 io, 180 io/DEVCLRn, 181 GND, 182 Ded.In, 183 Ded.Clk, 184 Ded.In, 185 VCCint, 186 io/DEVOE, 187 io, 188 GND, 189 io, 190 io, 191 io, 192 io, 193 io, 194 VCCio, 195 io, 196 io, 197 io, 198 io, 199 io, 200 io, 201 VCCint, 202 io, 203 io, 204 io/nRS, 205 io, 206 io/nWS, 207 io/CS, 208 io/nCS

## ESP32-S3-WROOM-1
designator D?
2.4 GHz Wi­Fi (802.11 b/g/n) and Bluetooth® 5 (LE) module / Built around ESP32­S3 series of SoCs, Xtensa® dual­core 32­bit LX7 microprocessor / Flash up to 16 MB, PSRAM up to 8 MB / 36 GPIOs, rich set of peripherals / Onboard PCB antenna or external antenna connector
footprint ESP32S3WROOM1
pins: 1 GND (power), 2 3V3 (power) "Power supply", 3 EN (power) "High: on, enables the chip. Low: off, the chip powers off Note: Do not leave the EN pin floating", 4 IO4 (io) "RTC_GPIO4, GPIO4, TOUCH4, ADC1_CH3", 5 IO5 (io) "RTC_GPIO5, GPIO5, TOUCH5, ADC1_CH4", 6 IO6 (io) "RTC_GPIO6, GPIO6, TOUCH6, ADC1_CH5", 7 IO7 (io) "RTC_GPIO7, GPIO7, TOUCH7, ADC1_CH6", 8 IO15 (io) "RTC_GPIO15, GPIO15, U0RTS, ADC2_CH4, XTAL_32K_P", 9 IO16 (io) "RTC_GPIO16, GPIO16, U0CTS, ADC2_CH5, XTAL_32K_N", 10 IO17 (io) "RTC_GPIO17, GPIO17, U1TXD, ADC2_CH6", 11 IO18 (io) "RTC_GPIO18, GPIO18, U1RXD, ADC2_CH7, CLK_OUT3", 12 IO8 (io) "RTC_GPIO8, GPIO8, TOUCH8, ADC1_CH7, SUBSPICS1", 13 IO19 / USB_DN (io) "RTC_GPIO19, GPIO19, U1RTS, ADC2_CH8, CLK_OUT2, USB_D-", 14 IO20 / USB_DP (io) "RTC_GPIO20, GPIO20, U1CTS, ADC2_CH9, CLK_OUT1, USB_D+", 15 IO3 (io) "RTC_GPIO3, GPIO3, TOUCH3, ADC1_CH2", 16 IO46 (io) "GPIO46", 17 IO9 (io) "RTC_GPIO9, GPIO9, TOUCH9, ADC1_CH8, FSPIHD, SUBSPIHD", 18 IO10 (io) "RTC_GPIO10, GPIO10, TOUCH10, ADC1_CH9, FSPICS0, FSPIIO4, SUBSPICS0", 19 IO11 (io) "RTC_GPIO11, GPIO11, TOUCH11, ADC2_CH0, FSPID, FSPIIO5, SUBSPID", 20 IO12 (io) "RTC_GPIO12, GPIO12, TOUCH12, ADC2_CH1, FSPICLK, FSPIIO6, SUBSPICLK", 21 IO13 (io) "RTC_GPIO13, GPIO13, TOUCH13, ADC2_CH2, FSPIQ, FSPIIO7, SUBSPIQ", 22 IO14 (io) "RTC_GPIO14, GPIO14, TOUCH14, ADC2_CH3, FSPIWP, FSPIDQS, SUBSPIWP", 23 IO21 (io) "RTC_GPIO21, GPIO21", 24 IO47 (io) "SPICLK_P_DIFF,GPIO47, SUBSPICLK_P_DIFF", 25 IO48 (io) "SPICLK_N_DIFF,GPIO48, SUBSPICLK_N_DIFF", 26 IO45 (io) "GPIO45", 27 IO0 (io) "RTC_GPIO0, GPIO0", 28 IO35 / RAM_D (io) "SPIIO6, GPIO35, FSPID, SUBSPID", 29 IO36 / RAM_CLK (io) "SPIIO7, GPIO36, FSPICLK, SUBSPICLK", 30 IO37 / RAM_Q (io) "SPIDQS, GPIO37, FSPIQ, SUBSPIQ", 31 IO38 (io) "GPIO38, FSPIWP, SUBSPIWP", 32 IO39 / TCK (io) "MTCK, GPIO39, CLK_OUT3, SUBSPICS1", 33 IO40 / TDO (io) "MTDO, GPIO40, CLK_OUT2", 34 IO41 / TDI (io) "MTDI, GPIO41, CLK_OUT1", 35 IO42 / TMS (io) "MTMS, GPIO42", 36 RXD0 (io) "U0RXD, GPIO44, CLK_OUT2", 37 TXD0 (io) "U0TXD, GPIO43, CLK_OUT1", 38 IO2 (io) "RTC_GPIO2, GPIO2, TOUCH2, ADC1_CH1", 39 IO1 (io) "RTC_GPIO1, GPIO1, TOUCH1, ADC1_CH0", 40 GND (power), EPAD (power) "GND"
text: SERIAL; BOOTSRAPING; USB; PSRAM; JTAG

## FDD34M
designator X?
Value: *
footprint FDD34M
pins: 1 GND, 2 ~{RWC}, 3 GND, 4 ~{HDL}, 5 KEY, 6 ~{DS3}, 7 GND, 8 ~{IDX}, 9 GND, 10 ~{DS0}, 11 GND, 12 ~{DS1}, 13 GND, 14 ~{DS2}, 15 GND, 16 ~{MOTON}, 17 GND, 18 ~{DIRC}, 19 GND, 20 ~{STEP}, 21 GND, 22 ~{WD}, 23 GND, 24 ~{WG}, 25 GND, 26 ~{TR00}, 27 GND, 28 ~{WP}, 29 GND, 30 ~{RDDATA}, 31 GND, 32 ~{SIDE1}, 33 GND, 34 ~{DSCHNG}